# Altium integrated library Linear Technology Power Management Switching Regulator LTC1174-LTC3901.IntLib: 2647 symbols (part 261 of 364)
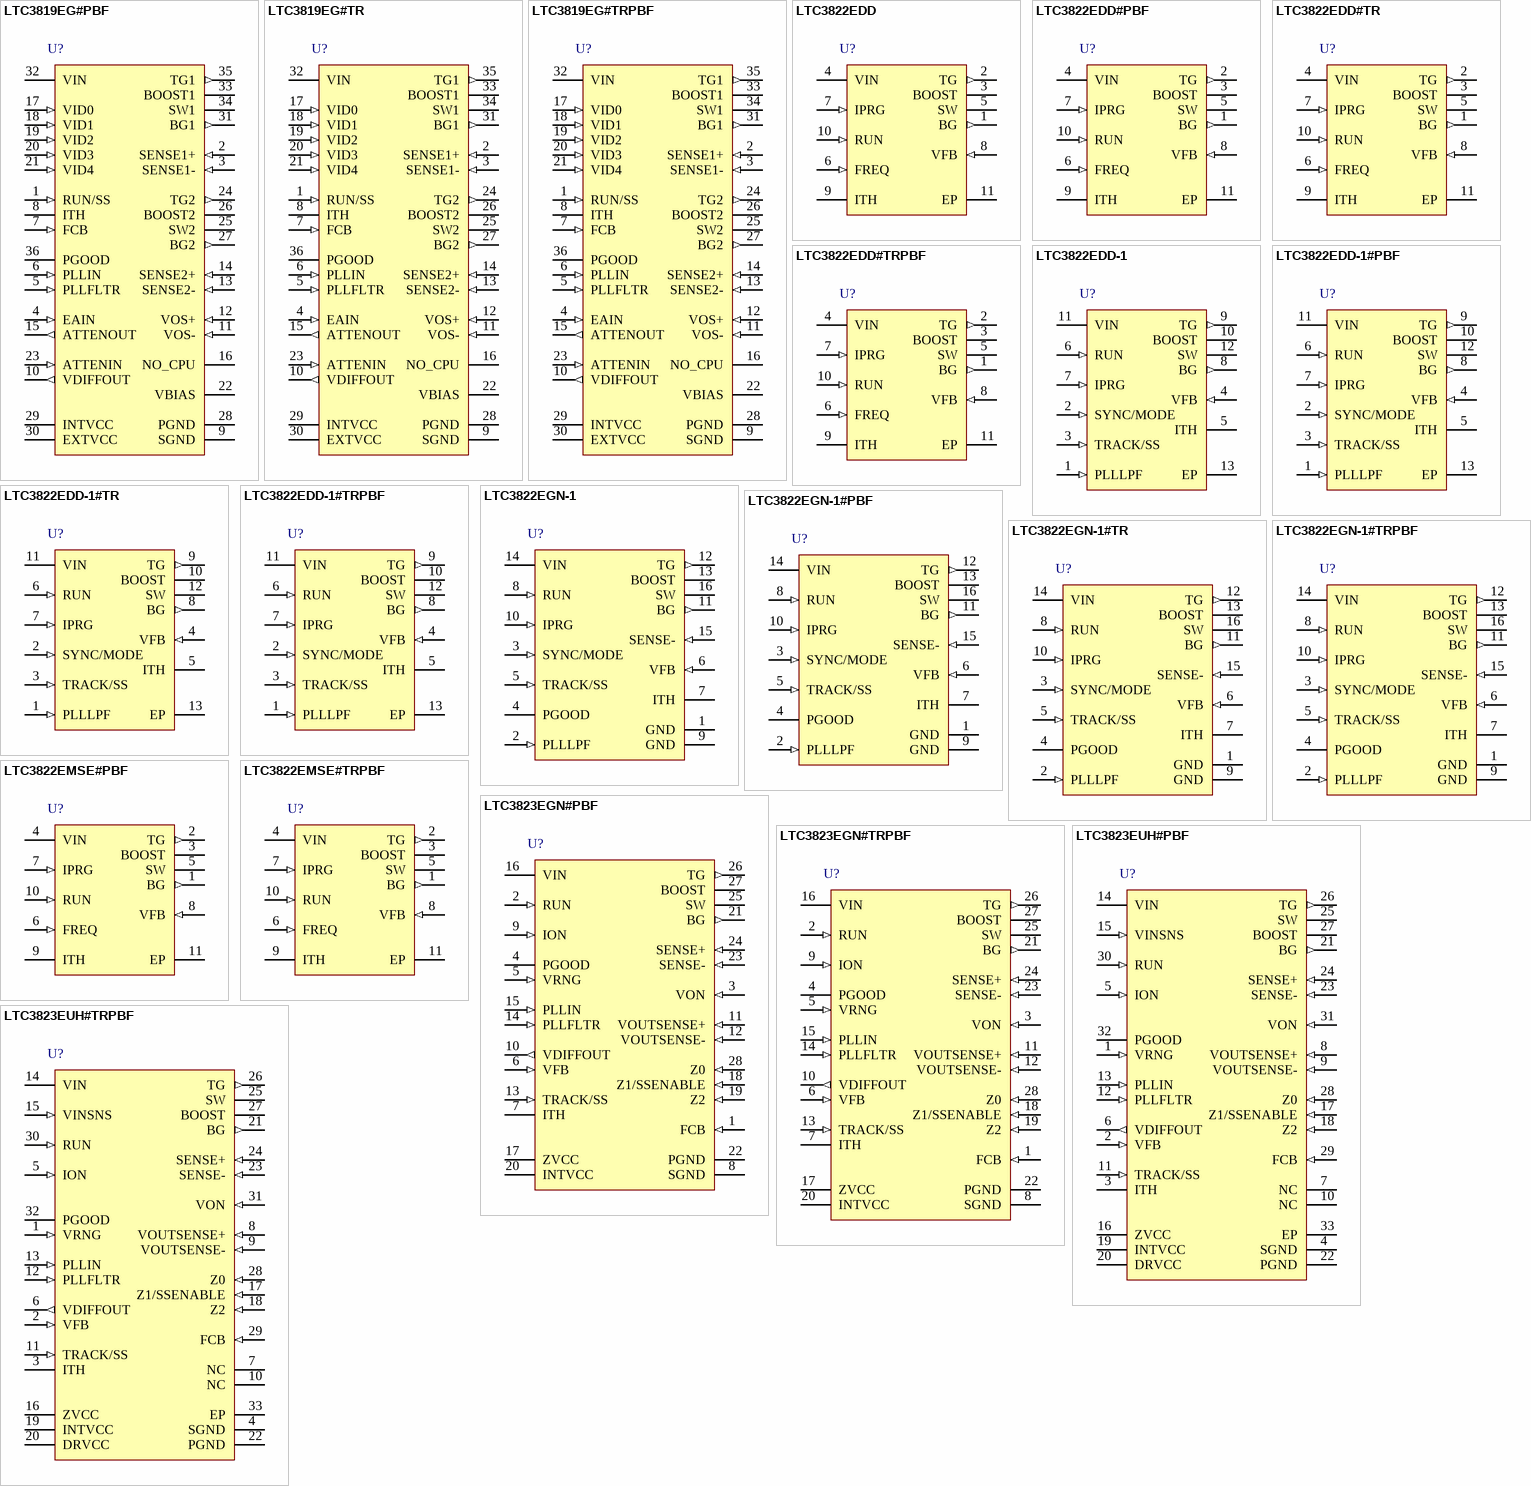
[diagram p250: symbols LTC3819EG#PBF to LTC3823EUH#TRPBF]

## LTC3822EDD#PBF
designator U?
No Rsense, Low Input Voltage, Synchronous Step-Down DC/DC Controller, 10-pin SON (DD-10), -40 to 85 degC, Pb-Free; Manufacturer: Linear Technology; PartNumber: LTC3822EDD#PBF; Number of Outputs: 1; DatasheetVersion: Rev. A; PackageVersion: Rev. C, 06/2010; PackageReference: DD-10; PackageDescription: 10-Pin Plastic DFN, Body 3 x 3 mm, Pitch 0.5 mm; Supplier 1: Digi-Key; Supplier Part Number 1: LTC3822EDD#PBF-ND; Supplier 2: Farnell; Supplier Part Number 2: 1715245; Supplier 3: Newark; Supplier Part Number 3: 95M6506; RoHS: TRUE; Mounting Technology: Surface Mount; Code_JEDEC: MO-229; ComponentLink1Description: Manufacturer URL; ComponentLink1URL: http://www.linear.com/; ComponentLink2Description: Datasheet; ComponentLink2URL: http://cds.linear.com/docs/en/datasheet/3822fa.pdf; ComponentLink3Description: Package Specification; ComponentLink3URL: http://cds.linear.com/docs/en/packaging/DFN_10_05-08-1699.pdf
footprint LT-DD-10_V (SON, 10-Leads, Body 3x3mm, Pitch 0.5mm, Thermal Pad 2.38x1.65mm)
pins: 1 BG (out) "Bottom Gate Driver Output. This pin drives the gate of the external bottom MOSFET. This pin has an output swing from GND to BOOST.", 2 TG (out) "Top Gate Driver Output. This pin drives the gate of the external topside MOSFET. This pin has an output swing from GND to BOOST.", 3 BOOST "Positive Supply Pin for the Gate Driver Circuitry. A bootstrapped capacitor, charged through an external Schottky diode from VIN, is connected between the BOOST and SW pins. Voltage swing at the BOOST pin is from VIN to 2VIN.(See Datasheet)", 4 VIN (power) "This pin powers the control circuitry and serves as the positive input to the differential current comparator. Pin 4 must not be locally decoupled with a capacitor as it is also the positive terminal for current sense.", 5 SW "Switch Node Connection to Inductor. This pin is also the negative input to the differential current comparator and an input to the reverse current comparator. Normally this pin is connected to the source of the external (See Datasheet)", 6 FREQ (in) "This pin serves as the frequency select input. Tying this pin to GND selects 300kHz operation; tying this pin to VIN selects 750kHz operation. Floating this pin selects 550kHz operation.", 7 IPRG (in) "Selects maximum peak sense voltage between the VIN and SW pins (i.e., the maximum allowed drop across the external top-side MOSFET). Tie to VIN, GND or float to select 200mV, 82mV or 120mV respectively.", 8 VFB (in) "Feedback Pin. This pin receives the remotely sensed feedback voltage from an external resistor divider across the output.", 9 ITH "Current Threshold and Error Amplifier Compensation Point. Nominal operating range on this pin is from 0.7V to 2V. The voltage on this pin determines the threshold of the main current comparator.", 10 RUN (in) "Run Control Input. Forcing this pin below 1.1V shuts down the chip. Driving this pin to VIN or releasing this pin enables the chip to start-up with the internal soft-start", 11 EP (power) "Exposed Pad. The exposed pad is ground and must be soldered to the PCB ground for electrical contact and optimal thermal performance."

## LTC3822EDD#TR
designator U?
No Rsense, Low Input Voltage, Synchronous Step-Down DC/DC Controller, 10-pin SON (DD-10), -40 to 85 degC, Tape and Reel; Manufacturer: Linear Technology; PartNumber: LTC3822EDD#TR; Number of Outputs: 1; DatasheetVersion: Rev. A; PackageVersion: Rev. C, 06/2010; PackageReference: DD-10; PackageDescription: 10-Pin Plastic DFN, Body 3 x 3 mm, Pitch 0.5 mm; Packing: Tape and Reel; RoHS: FALSE; Mounting Technology: Surface Mount; Code_JEDEC: MO-229; ComponentLink1Description: Manufacturer URL; ComponentLink1URL: http://www.linear.com/; ComponentLink2Description: Datasheet; ComponentLink2URL: http://cds.linear.com/docs/en/datasheet/3822fa.pdf; ComponentLink3Description: Package Specification; ComponentLink3URL: http://cds.linear.com/docs/en/packaging/DFN_10_05-08-1699.pdf
footprint LT-DD-10_V (SON, 10-Leads, Body 3x3mm, Pitch 0.5mm, Thermal Pad 2.38x1.65mm)
pins: 1 BG (out) "Bottom Gate Driver Output. This pin drives the gate of the external bottom MOSFET. This pin has an output swing from GND to BOOST.", 2 TG (out) "Top Gate Driver Output. This pin drives the gate of the external topside MOSFET. This pin has an output swing from GND to BOOST.", 3 BOOST "Positive Supply Pin for the Gate Driver Circuitry. A bootstrapped capacitor, charged through an external Schottky diode from VIN, is connected between the BOOST and SW pins. Voltage swing at the BOOST pin is from VIN to 2VIN.(See Datasheet)", 4 VIN (power) "This pin powers the control circuitry and serves as the positive input to the differential current comparator. Pin 4 must not be locally decoupled with a capacitor as it is also the positive terminal for current sense.", 5 SW "Switch Node Connection to Inductor. This pin is also the negative input to the differential current comparator and an input to the reverse current comparator. Normally this pin is connected to the source of the external (See Datasheet)", 6 FREQ (in) "This pin serves as the frequency select input. Tying this pin to GND selects 300kHz operation; tying this pin to VIN selects 750kHz operation. Floating this pin selects 550kHz operation.", 7 IPRG (in) "Selects maximum peak sense voltage between the VIN and SW pins (i.e., the maximum allowed drop across the external top-side MOSFET). Tie to VIN, GND or float to select 200mV, 82mV or 120mV respectively.", 8 VFB (in) "Feedback Pin. This pin receives the remotely sensed feedback voltage from an external resistor divider across the output.", 9 ITH "Current Threshold and Error Amplifier Compensation Point. Nominal operating range on this pin is from 0.7V to 2V. The voltage on this pin determines the threshold of the main current comparator.", 10 RUN (in) "Run Control Input. Forcing this pin below 1.1V shuts down the chip. Driving this pin to VIN or releasing this pin enables the chip to start-up with the internal soft-start", 11 EP (power) "Exposed Pad. The exposed pad is ground and must be soldered to the PCB ground for electrical contact and optimal thermal performance."

## LTC3822EDD#TRPBF
designator U?
No Rsense, Low Input Voltage, Synchronous Step-Down DC/DC Controller, 10-pin SON (DD-10), -40 to 85 degC, Pb-Free, Tape and Reel; Manufacturer: Linear Technology; PartNumber: LTC3822EDD#TRPBF; Number of Outputs: 1; DatasheetVersion: Rev. A; PackageVersion: Rev. C, 06/2010; PackageReference: DD-10; PackageDescription: 10-Pin Plastic DFN, Body 3 x 3 mm, Pitch 0.5 mm; Supplier 1: Digi-Key; Supplier Part Number 1: LTC3822EDD#TRPBF-ND; Packing: Tape and Reel; RoHS: TRUE; Mounting Technology: Surface Mount; Code_JEDEC: MO-229; ComponentLink1Description: Manufacturer URL; ComponentLink1URL: http://www.linear.com/; ComponentLink2Description: Datasheet; ComponentLink2URL: http://cds.linear.com/docs/en/datasheet/3822fa.pdf; ComponentLink3Description: Package Specification; ComponentLink3URL: http://cds.linear.com/docs/en/packaging/DFN_10_05-08-1699.pdf
footprint LT-DD-10_V (SON, 10-Leads, Body 3x3mm, Pitch 0.5mm, Thermal Pad 2.38x1.65mm)
pins: 1 BG (out) "Bottom Gate Driver Output. This pin drives the gate of the external bottom MOSFET. This pin has an output swing from GND to BOOST.", 2 TG (out) "Top Gate Driver Output. This pin drives the gate of the external topside MOSFET. This pin has an output swing from GND to BOOST.", 3 BOOST "Positive Supply Pin for the Gate Driver Circuitry. A bootstrapped capacitor, charged through an external Schottky diode from VIN, is connected between the BOOST and SW pins. Voltage swing at the BOOST pin is from VIN to 2VIN.(See Datasheet)", 4 VIN (power) "This pin powers the control circuitry and serves as the positive input to the differential current comparator. Pin 4 must not be locally decoupled with a capacitor as it is also the positive terminal for current sense.", 5 SW "Switch Node Connection to Inductor. This pin is also the negative input to the differential current comparator and an input to the reverse current comparator. Normally this pin is connected to the source of the external (See Datasheet)", 6 FREQ (in) "This pin serves as the frequency select input. Tying this pin to GND selects 300kHz operation; tying this pin to VIN selects 750kHz operation. Floating this pin selects 550kHz operation.", 7 IPRG (in) "Selects maximum peak sense voltage between the VIN and SW pins (i.e., the maximum allowed drop across the external top-side MOSFET). Tie to VIN, GND or float to select 200mV, 82mV or 120mV respectively.", 8 VFB (in) "Feedback Pin. This pin receives the remotely sensed feedback voltage from an external resistor divider across the output.", 9 ITH "Current Threshold and Error Amplifier Compensation Point. Nominal operating range on this pin is from 0.7V to 2V. The voltage on this pin determines the threshold of the main current comparator.", 10 RUN (in) "Run Control Input. Forcing this pin below 1.1V shuts down the chip. Driving this pin to VIN or releasing this pin enables the chip to start-up with the internal soft-start", 11 EP (power) "Exposed Pad. The exposed pad is ground and must be soldered to the PCB ground for electrical contact and optimal thermal performance."

## LTC3822EDD-1
designator U?
No Rsense, Low Input Voltage, Synchronous Step-Down DC/DC Controller, 12-pin SON (DD-12), -40 to 85 degC; Manufacturer: Linear Technology; PartNumber: LTC3822EDD-1; Frequency Sync Range: 250kHz - 750kHz; Number of Outputs: 1; PackageVersion: Rev. A, 06/2010; PackageReference: DD-12; PackageDescription: 12-Pin Plastic DFN, Body 3 x 3 mm, Pitch 0.45 mm; RoHS: FALSE; Mounting Technology: Surface Mount; ComponentLink1Description: Manufacturer URL; ComponentLink1URL: http://www.linear.com/; ComponentLink2Description: Datasheet; ComponentLink2URL: http://cds.linear.com/docs/en/datasheet/38221f.pdf; ComponentLink3Description: Package Specification; ComponentLink3URL: http://cds.linear.com/docs/en/packaging/DFN_12_05-08-1725.pdf
footprint LT-DD-12_V (SON, 12-Leads, Body 3x3mm, Pitch 0.45mm, Thermal Pad 2.38x1.65mm)
pins: 1 PLLLPF (in) "This pin serves as the frequency select input and PLL lowpass filter compensation point. When SYNC/MODE has a DC voltage on it, tying this pin to GND selects 300kHz operation; tying this pin to VIN selects 750kHz operation. (See Datasheet)", 2 SYNC/MODE (in) "This pin performs two functions:1) external clock synchronization input for phaselocked loop and 2) Burst Mode, pulse skipping or forced continuous mode select. Applying a clock with frequency between 250kHz and 750kHz (See Datasheet)", 3 TRACK/SS (in) "Tracking Input for the Controller or Optional External Soft-Start Input. This pin allows the start-up of VOUT to “track?the external voltage at this pin using an external resistor divider. The LTC3822-1 regulates (See Datasheet)", 4 VFB (in) "Feedback Pin. This pin receives the remotely sensed feedback voltage for the controller from an external resistor divider across the output.", 5 ITH "Current Threshold and Error Amplifier Compensation Point. Nominal operating range on this pin is from 0.7V to 2V. The voltage on this pin determines the threshold of the main current comparator.", 6 RUN (in) "Run Control Input. Forcing this pin below 1.1V shuts down the chip. Driving this pin to VIN or releasing this pin enables the chip to start-up.", 7 IPRG (in) "Three-State Pin to Select the Maximum Peak Sense Voltage Threshold. This pin selects the maximum allowed voltage drop between the VIN and SW pins (i.e., the maximum allowed drop across the external topside MOSFET). Tie to (See Datasheet)", 8 BG (out) "Bottom Gate Driver Output. This pin drives the gate of the external bottom-side MOSFET. This pin has an output swing from GND to BOOST.", 9 TG (out) "Top Gate Driver Output. This pin drives the gate of the external topside MOSFET. This pin has an output swing from GND to BOOST.", 10 BOOST "Positive Supply Pin for the Gate Driver Circuitry. A bootstrapped capacitor, charged with an external Schottky diode and a boost voltage source, is connected between the BOOST and SW pins. Voltage swing at the BOOST pin is (See Datasheet)", 11 VIN (power) "This pin powers the control circuitry and serves as the positive input to the differential current comparator.", 12 SW "Switch Node Connection to Inductor. This pin is also the negative input to the differential current comparator(DFN only) and an input to the reverse current comparator. Normally this pin is connected to the source of the (See Datasheet)", 13 EP (power) "Ground. The Exposed Pad is ground and must be soldered to the PCB ground for electrical contact and optimal thermal performance."

## LTC3822EDD-1#PBF
designator U?
No Rsense, Low Input Voltage, Synchronous Step-Down DC/DC Controller, 12-pin SON (DD-12), -40 to 85 degC, Pb-Free; Manufacturer: Linear Technology; PartNumber: LTC3822EDD-1#PBF; Frequency Sync Range: 250kHz - 750kHz; Number of Outputs: 1; PackageVersion: Rev. A, 06/2010; PackageReference: DD-12; PackageDescription: 12-Pin Plastic DFN, Body 3 x 3 mm, Pitch 0.45 mm; Supplier 1: Digi-Key; Supplier Part Number 1: LTC3822EDD-1#PBF-ND; Supplier 2: Newark; Supplier Part Number 2: 56M8512; RoHS: TRUE; Mounting Technology: Surface Mount; ComponentLink1Description: Manufacturer URL; ComponentLink1URL: http://www.linear.com/; ComponentLink2Description: Datasheet; ComponentLink2URL: http://cds.linear.com/docs/en/datasheet/38221f.pdf; ComponentLink3Description: Package Specification; ComponentLink3URL: http://cds.linear.com/docs/en/packaging/DFN_12_05-08-1725.pdf
footprint LT-DD-12_V (SON, 12-Leads, Body 3x3mm, Pitch 0.45mm, Thermal Pad 2.38x1.65mm)
pins: 1 PLLLPF (in) "This pin serves as the frequency select input and PLL lowpass filter compensation point. When SYNC/MODE has a DC voltage on it, tying this pin to GND selects 300kHz operation; tying this pin to VIN selects 750kHz operation. (See Datasheet)", 2 SYNC/MODE (in) "This pin performs two functions:1) external clock synchronization input for phaselocked loop and 2) Burst Mode, pulse skipping or forced continuous mode select. Applying a clock with frequency between 250kHz and 750kHz (See Datasheet)", 3 TRACK/SS (in) "Tracking Input for the Controller or Optional External Soft-Start Input. This pin allows the start-up of VOUT to “track?the external voltage at this pin using an external resistor divider. The LTC3822-1 regulates (See Datasheet)", 4 VFB (in) "Feedback Pin. This pin receives the remotely sensed feedback voltage for the controller from an external resistor divider across the output.", 5 ITH "Current Threshold and Error Amplifier Compensation Point. Nominal operating range on this pin is from 0.7V to 2V. The voltage on this pin determines the threshold of the main current comparator.", 6 RUN (in) "Run Control Input. Forcing this pin below 1.1V shuts down the chip. Driving this pin to VIN or releasing this pin enables the chip to start-up.", 7 IPRG (in) "Three-State Pin to Select the Maximum Peak Sense Voltage Threshold. This pin selects the maximum allowed voltage drop between the VIN and SW pins (i.e., the maximum allowed drop across the external topside MOSFET). Tie to (See Datasheet)", 8 BG (out) "Bottom Gate Driver Output. This pin drives the gate of the external bottom-side MOSFET. This pin has an output swing from GND to BOOST.", 9 TG (out) "Top Gate Driver Output. This pin drives the gate of the external topside MOSFET. This pin has an output swing from GND to BOOST.", 10 BOOST "Positive Supply Pin for the Gate Driver Circuitry. A bootstrapped capacitor, charged with an external Schottky diode and a boost voltage source, is connected between the BOOST and SW pins. Voltage swing at the BOOST pin is (See Datasheet)", 11 VIN (power) "This pin powers the control circuitry and serves as the positive input to the differential current comparator.", 12 SW "Switch Node Connection to Inductor. This pin is also the negative input to the differential current comparator(DFN only) and an input to the reverse current comparator. Normally this pin is connected to the source of the (See Datasheet)", 13 EP (power) "Ground. The Exposed Pad is ground and must be soldered to the PCB ground for electrical contact and optimal thermal performance."

## LTC3822EDD-1#TR
designator U?
No Rsense, Low Input Voltage, Synchronous Step-Down DC/DC Controller, 12-pin SON (DD-12), -40 to 85 degC, Tape and Reel; Manufacturer: Linear Technology; PartNumber: LTC3822EDD-1#TR; Frequency Sync Range: 250kHz - 750kHz; Number of Outputs: 1; PackageVersion: Rev. A, 06/2010; PackageReference: DD-12; PackageDescription: 12-Pin Plastic DFN, Body 3 x 3 mm, Pitch 0.45 mm; Packing: Tape and Reel; RoHS: FALSE; Mounting Technology: Surface Mount; ComponentLink1Description: Manufacturer URL; ComponentLink1URL: http://www.linear.com/; ComponentLink2Description: Datasheet; ComponentLink2URL: http://cds.linear.com/docs/en/datasheet/38221f.pdf; ComponentLink3Description: Package Specification; ComponentLink3URL: http://cds.linear.com/docs/en/packaging/DFN_12_05-08-1725.pdf
footprint LT-DD-12_V (SON, 12-Leads, Body 3x3mm, Pitch 0.45mm, Thermal Pad 2.38x1.65mm)
pins: 1 PLLLPF (in) "This pin serves as the frequency select input and PLL lowpass filter compensation point. When SYNC/MODE has a DC voltage on it, tying this pin to GND selects 300kHz operation; tying this pin to VIN selects 750kHz operation. (See Datasheet)", 2 SYNC/MODE (in) "This pin performs two functions:1) external clock synchronization input for phaselocked loop and 2) Burst Mode, pulse skipping or forced continuous mode select. Applying a clock with frequency between 250kHz and 750kHz (See Datasheet)", 3 TRACK/SS (in) "Tracking Input for the Controller or Optional External Soft-Start Input. This pin allows the start-up of VOUT to “track?the external voltage at this pin using an external resistor divider. The LTC3822-1 regulates (See Datasheet)", 4 VFB (in) "Feedback Pin. This pin receives the remotely sensed feedback voltage for the controller from an external resistor divider across the output.", 5 ITH "Current Threshold and Error Amplifier Compensation Point. Nominal operating range on this pin is from 0.7V to 2V. The voltage on this pin determines the threshold of the main current comparator.", 6 RUN (in) "Run Control Input. Forcing this pin below 1.1V shuts down the chip. Driving this pin to VIN or releasing this pin enables the chip to start-up.", 7 IPRG (in) "Three-State Pin to Select the Maximum Peak Sense Voltage Threshold. This pin selects the maximum allowed voltage drop between the VIN and SW pins (i.e., the maximum allowed drop across the external topside MOSFET). Tie to (See Datasheet)", 8 BG (out) "Bottom Gate Driver Output. This pin drives the gate of the external bottom-side MOSFET. This pin has an output swing from GND to BOOST.", 9 TG (out) "Top Gate Driver Output. This pin drives the gate of the external topside MOSFET. This pin has an output swing from GND to BOOST.", 10 BOOST "Positive Supply Pin for the Gate Driver Circuitry. A bootstrapped capacitor, charged with an external Schottky diode and a boost voltage source, is connected between the BOOST and SW pins. Voltage swing at the BOOST pin is (See Datasheet)", 11 VIN (power) "This pin powers the control circuitry and serves as the positive input to the differential current comparator.", 12 SW "Switch Node Connection to Inductor. This pin is also the negative input to the differential current comparator(DFN only) and an input to the reverse current comparator. Normally this pin is connected to the source of the (See Datasheet)", 13 EP (power) "Ground. The Exposed Pad is ground and must be soldered to the PCB ground for electrical contact and optimal thermal performance."

## LTC3822EDD-1#TRPBF
designator U?
No Rsense, Low Input Voltage, Synchronous Step-Down DC/DC Controller, 12-pin SON (DD-12), -40 to 85 degC, Pb-Free, Tape and Reel; Manufacturer: Linear Technology; PartNumber: LTC3822EDD-1#TRPBF; Frequency Sync Range: 250kHz - 750kHz; Number of Outputs: 1; PackageVersion: Rev. A, 06/2010; PackageReference: DD-12; PackageDescription: 12-Pin Plastic DFN, Body 3 x 3 mm, Pitch 0.45 mm; Supplier 1: Digi-Key; Supplier Part Number 1: LTC3822EDD-1#TRPBF-ND; Packing: Tape and Reel; RoHS: TRUE; Mounting Technology: Surface Mount; ComponentLink1Description: Manufacturer URL; ComponentLink1URL: http://www.linear.com/; ComponentLink2Description: Datasheet; ComponentLink2URL: http://cds.linear.com/docs/en/datasheet/38221f.pdf; ComponentLink3Description: Package Specification; ComponentLink3URL: http://cds.linear.com/docs/en/packaging/DFN_12_05-08-1725.pdf
footprint LT-DD-12_V (SON, 12-Leads, Body 3x3mm, Pitch 0.45mm, Thermal Pad 2.38x1.65mm)
pins: 1 PLLLPF (in) "This pin serves as the frequency select input and PLL lowpass filter compensation point. When SYNC/MODE has a DC voltage on it, tying this pin to GND selects 300kHz operation; tying this pin to VIN selects 750kHz operation. (See Datasheet)", 2 SYNC/MODE (in) "This pin performs two functions:1) external clock synchronization input for phaselocked loop and 2) Burst Mode, pulse skipping or forced continuous mode select. Applying a clock with frequency between 250kHz and 750kHz (See Datasheet)", 3 TRACK/SS (in) "Tracking Input for the Controller or Optional External Soft-Start Input. This pin allows the start-up of VOUT to “track?the external voltage at this pin using an external resistor divider. The LTC3822-1 regulates (See Datasheet)", 4 VFB (in) "Feedback Pin. This pin receives the remotely sensed feedback voltage for the controller from an external resistor divider across the output.", 5 ITH "Current Threshold and Error Amplifier Compensation Point. Nominal operating range on this pin is from 0.7V to 2V. The voltage on this pin determines the threshold of the main current comparator.", 6 RUN (in) "Run Control Input. Forcing this pin below 1.1V shuts down the chip. Driving this pin to VIN or releasing this pin enables the chip to start-up.", 7 IPRG (in) "Three-State Pin to Select the Maximum Peak Sense Voltage Threshold. This pin selects the maximum allowed voltage drop between the VIN and SW pins (i.e., the maximum allowed drop across the external topside MOSFET). Tie to (See Datasheet)", 8 BG (out) "Bottom Gate Driver Output. This pin drives the gate of the external bottom-side MOSFET. This pin has an output swing from GND to BOOST.", 9 TG (out) "Top Gate Driver Output. This pin drives the gate of the external topside MOSFET. This pin has an output swing from GND to BOOST.", 10 BOOST "Positive Supply Pin for the Gate Driver Circuitry. A bootstrapped capacitor, charged with an external Schottky diode and a boost voltage source, is connected between the BOOST and SW pins. Voltage swing at the BOOST pin is (See Datasheet)", 11 VIN (power) "This pin powers the control circuitry and serves as the positive input to the differential current comparator.", 12 SW "Switch Node Connection to Inductor. This pin is also the negative input to the differential current comparator(DFN only) and an input to the reverse current comparator. Normally this pin is connected to the source of the (See Datasheet)", 13 EP (power) "Ground. The Exposed Pad is ground and must be soldered to the PCB ground for electrical contact and optimal thermal performance."

## LTC3822EGN-1
designator U?
No Rsense, Low Input Voltage, Synchronous Step-Down DC/DC Controller, 16-pin SOP (GN-16), -40 to 85 degC; Manufacturer: Linear Technology; PartNumber: LTC3822EGN-1; Frequency Sync Range: 250kHz - 750kHz; Number of Outputs: 1; PackageVersion: Rev. B, 03/2012; PackageReference: GN-16; PackageDescription: 16-Pin Plastic SSOP, Body 4.9 x 3.9 mm, Pitch 0.635 mm; RoHS: FALSE; Mounting Technology: Surface Mount; ComponentLink1Description: Manufacturer URL; ComponentLink1URL: http://www.linear.com/; ComponentLink2Description: Datasheet; ComponentLink2URL: http://cds.linear.com/docs/en/datasheet/38221f.pdf; ComponentLink3Description: Package Specification; ComponentLink3URL: http://cds.linear.com/docs/en/packaging/05081641_B_GN16.pdf
footprint LT-GN-16_N (SOP, 16-Leads, Body 5x4mm, Pitch 0.635mm, IPC Medium Density)
footprint LT-GN-16_L (SOP, 16-Leads, Body 5x4mm, Pitch 0.635mm, IPC High Density)
footprint LT-GN-16_M (SOP, 16-Leads, Body 5x4mm, Pitch 0.635mm, IPC Low Density)
pins: 1 GND (power) "Ground.", 2 PLLLPF (in) "This pin serves as the frequency select input and PLL lowpass filter compensation point. When SYNC/MODE has a DC voltage on it, tying this pin  to GND selects 300kHz operation; tying this pin to VIN selects 750kHz operation. (See Datasheet)", 3 SYNC/MODE (in) "This pin performs two functions: 1) external clock synchronization input for phaselocked loop and 2) Burst Mode, pulse skipping or forced continuous mode select. Applying a clock with frequency between 250kHz and 750kHz (See Datasheet)", 4 PGOOD (oc) "Power Good Output Voltage Monitor Open-Drain Logic Output. This pin is pulled to ground when the voltage on the feedback pin VFB is not within +/-13.3% of its nominal set point", 5 TRACK/SS (in) "Tracking Input for the Controller or Optional External Soft-Start Input. This pin allows the start-up of VOUT to “track?the external voltage at this pin using an external resistor divider. The LTC3822-1 regulates (See Datasheet)", 6 VFB (in) "Feedback Pin. This pin receives the remotely sensed feedback voltage for the controller from an external resistor divider across the output.", 7 ITH "Current Threshold and Error Amplifier Compensation Point. Nominal operating range on this pin is from 0.7V to 2V. The voltage on this pin determines the threshold of the main current comparator.", 8 RUN (in) "Run Control Input. Forcing this pin below 1.1V shuts down the chip. Driving this pin to VIN or releasing this pin enables the chip to start-up.", 9 GND (power) "Ground.", 10 IPRG (in) "Three-State Pin to Select the Maximum Peak Sense Voltage Threshold. This pin selects the maximum allowed voltage drop between the VIN and SW pins (i.e., the maximum allowed drop across the external topside MOSFET). Tie to (See Datasheet)", 11 BG (out) "Bottom Gate Driver Output. This pin drives the gate of the external bottom-side MOSFET. This pin has an output swing from GND to BOOST.", 12 TG (out) "Top Gate Driver Output. This pin drives the gate of the external topside MOSFET. This pin has an output swing from GND to BOOST.", 13 BOOST "Positive Supply Pin for the Gate Driver Circuitry. A bootstrapped capacitor, charged with an external Schottky diode and a boost voltage source, is connected between the BOOST and SW pins. Voltage swing at the BOOST pin is (See Datasheet)", 14 VIN (power) "This pin powers the control circuitry and serves as the positive input to the differential current comparator.", 15 SENSE- (in) "Negative Input to the Differential Current Comparator. Normally this pin is connected to the source of the external topside MOSFET.", 16 SW "Switch Node Connection to Inductor. This pin is also the negative input to the differential current comparator(DFN only) and an input to the reverse current comparator. Normally this pin is connected to the source of the (See Datasheet)"

## LTC3822EGN-1#PBF
designator U?
No Rsense, Low Input Voltage, Synchronous Step-Down DC/DC Controller, 16-pin SOP (GN-16), -40 to 85 degC, Pb-Free; Manufacturer: Linear Technology; PartNumber: LTC3822EGN-1#PBF; Frequency Sync Range: 250kHz - 750kHz; Number of Outputs: 1; PackageVersion: Rev. B, 03/2012; PackageReference: GN-16; PackageDescription: 16-Pin Plastic SSOP, Body 4.9 x 3.9 mm, Pitch 0.635 mm; Supplier 1: Digi-Key; Supplier Part Number 1: LTC3822EGN-1#PBF-ND; RoHS: TRUE; Mounting Technology: Surface Mount; ComponentLink1Description: Manufacturer URL; ComponentLink1URL: http://www.linear.com/; ComponentLink2Description: Datasheet; ComponentLink2URL: http://cds.linear.com/docs/en/datasheet/38221f.pdf; ComponentLink3Description: Package Specification; ComponentLink3URL: http://cds.linear.com/docs/en/packaging/05081641_B_GN16.pdf
footprint LT-GN-16_N (SOP, 16-Leads, Body 5x4mm, Pitch 0.635mm, IPC Medium Density)
footprint LT-GN-16_L (SOP, 16-Leads, Body 5x4mm, Pitch 0.635mm, IPC High Density)
footprint LT-GN-16_M (SOP, 16-Leads, Body 5x4mm, Pitch 0.635mm, IPC Low Density)
pins: 1 GND (power) "Ground.", 2 PLLLPF (in) "This pin serves as the frequency select input and PLL lowpass filter compensation point. When SYNC/MODE has a DC voltage on it, tying this pin  to GND selects 300kHz operation; tying this pin to VIN selects 750kHz operation. (See Datasheet)", 3 SYNC/MODE (in) "This pin performs two functions: 1) external clock synchronization input for phaselocked loop and 2) Burst Mode, pulse skipping or forced continuous mode select. Applying a clock with frequency between 250kHz and 750kHz (See Datasheet)", 4 PGOOD (oc) "Power Good Output Voltage Monitor Open-Drain Logic Output. This pin is pulled to ground when the voltage on the feedback pin VFB is not within +/-13.3% of its nominal set point", 5 TRACK/SS (in) "Tracking Input for the Controller or Optional External Soft-Start Input. This pin allows the start-up of VOUT to “track?the external voltage at this pin using an external resistor divider. The LTC3822-1 regulates (See Datasheet)", 6 VFB (in) "Feedback Pin. This pin receives the remotely sensed feedback voltage for the controller from an external resistor divider across the output.", 7 ITH "Current Threshold and Error Amplifier Compensation Point. Nominal operating range on this pin is from 0.7V to 2V. The voltage on this pin determines the threshold of the main current comparator.", 8 RUN (in) "Run Control Input. Forcing this pin below 1.1V shuts down the chip. Driving this pin to VIN or releasing this pin enables the chip to start-up.", 9 GND (power) "Ground.", 10 IPRG (in) "Three-State Pin to Select the Maximum Peak Sense Voltage Threshold. This pin selects the maximum allowed voltage drop between the VIN and SW pins (i.e., the maximum allowed drop across the external topside MOSFET). Tie to (See Datasheet)", 11 BG (out) "Bottom Gate Driver Output. This pin drives the gate of the external bottom-side MOSFET. This pin has an output swing from GND to BOOST.", 12 TG (out) "Top Gate Driver Output. This pin drives the gate of the external topside MOSFET. This pin has an output swing from GND to BOOST.", 13 BOOST "Positive Supply Pin for the Gate Driver Circuitry. A bootstrapped capacitor, charged with an external Schottky diode and a boost voltage source, is connected between the BOOST and SW pins. Voltage swing at the BOOST pin is (See Datasheet)", 14 VIN (power) "This pin powers the control circuitry and serves as the positive input to the differential current comparator.", 15 SENSE- (in) "Negative Input to the Differential Current Comparator. Normally this pin is connected to the source of the external topside MOSFET.", 16 SW "Switch Node Connection to Inductor. This pin is also the negative input to the differential current comparator(DFN only) and an input to the reverse current comparator. Normally this pin is connected to the source of the (See Datasheet)"

## LTC3822EGN-1#TR
designator U?
No Rsense, Low Input Voltage, Synchronous Step-Down DC/DC Controller, 16-pin SOP (GN-16), -40 to 85 degC, Tape and Reel; Manufacturer: Linear Technology; PartNumber: LTC3822EGN-1#TR; Frequency Sync Range: 250kHz - 750kHz; Number of Outputs: 1; PackageVersion: Rev. B, 03/2012; PackageReference: GN-16; PackageDescription: 16-Pin Plastic SSOP, Body 4.9 x 3.9 mm, Pitch 0.635 mm; Packing: Tape and Reel; RoHS: FALSE; Mounting Technology: Surface Mount; ComponentLink1Description: Manufacturer URL; ComponentLink1URL: http://www.linear.com/; ComponentLink2Description: Datasheet; ComponentLink2URL: http://cds.linear.com/docs/en/datasheet/38221f.pdf; ComponentLink3Description: Package Specification; ComponentLink3URL: http://cds.linear.com/docs/en/packaging/05081641_B_GN16.pdf
footprint LT-GN-16_N (SOP, 16-Leads, Body 5x4mm, Pitch 0.635mm, IPC Medium Density)
footprint LT-GN-16_L (SOP, 16-Leads, Body 5x4mm, Pitch 0.635mm, IPC High Density)
footprint LT-GN-16_M (SOP, 16-Leads, Body 5x4mm, Pitch 0.635mm, IPC Low Density)
pins: 1 GND (power) "Ground.", 2 PLLLPF (in) "This pin serves as the frequency select input and PLL lowpass filter compensation point. When SYNC/MODE has a DC voltage on it, tying this pin  to GND selects 300kHz operation; tying this pin to VIN selects 750kHz operation. (See Datasheet)", 3 SYNC/MODE (in) "This pin performs two functions: 1) external clock synchronization input for phaselocked loop and 2) Burst Mode, pulse skipping or forced continuous mode select. Applying a clock with frequency between 250kHz and 750kHz (See Datasheet)", 4 PGOOD (oc) "Power Good Output Voltage Monitor Open-Drain Logic Output. This pin is pulled to ground when the voltage on the feedback pin VFB is not within +/-13.3% of its nominal set point", 5 TRACK/SS (in) "Tracking Input for the Controller or Optional External Soft-Start Input. This pin allows the start-up of VOUT to “track?the external voltage at this pin using an external resistor divider. The LTC3822-1 regulates (See Datasheet)", 6 VFB (in) "Feedback Pin. This pin receives the remotely sensed feedback voltage for the controller from an external resistor divider across the output.", 7 ITH "Current Threshold and Error Amplifier Compensation Point. Nominal operating range on this pin is from 0.7V to 2V. The voltage on this pin determines the threshold of the main current comparator.", 8 RUN (in) "Run Control Input. Forcing this pin below 1.1V shuts down the chip. Driving this pin to VIN or releasing this pin enables the chip to start-up.", 9 GND (power) "Ground.", 10 IPRG (in) "Three-State Pin to Select the Maximum Peak Sense Voltage Threshold. This pin selects the maximum allowed voltage drop between the VIN and SW pins (i.e., the maximum allowed drop across the external topside MOSFET). Tie to (See Datasheet)", 11 BG (out) "Bottom Gate Driver Output. This pin drives the gate of the external bottom-side MOSFET. This pin has an output swing from GND to BOOST.", 12 TG (out) "Top Gate Driver Output. This pin drives the gate of the external topside MOSFET. This pin has an output swing from GND to BOOST.", 13 BOOST "Positive Supply Pin for the Gate Driver Circuitry. A bootstrapped capacitor, charged with an external Schottky diode and a boost voltage source, is connected between the BOOST and SW pins. Voltage swing at the BOOST pin is (See Datasheet)", 14 VIN (power) "This pin powers the control circuitry and serves as the positive input to the differential current comparator.", 15 SENSE- (in) "Negative Input to the Differential Current Comparator. Normally this pin is connected to the source of the external topside MOSFET.", 16 SW "Switch Node Connection to Inductor. This pin is also the negative input to the differential current comparator(DFN only) and an input to the reverse current comparator. Normally this pin is connected to the source of the (See Datasheet)"

## LTC3822EGN-1#TRPBF
designator U?
No Rsense, Low Input Voltage, Synchronous Step-Down DC/DC Controller, 16-pin SOP (GN-16), -40 to 85 degC, Pb-Free, Tape and Reel; Manufacturer: Linear Technology; PartNumber: LTC3822EGN-1#TRPBF; Frequency Sync Range: 250kHz - 750kHz; Number of Outputs: 1; PackageVersion: Rev. B, 03/2012; PackageReference: GN-16; PackageDescription: 16-Pin Plastic SSOP, Body 4.9 x 3.9 mm, Pitch 0.635 mm; Supplier 1: Digi-Key; Supplier Part Number 1: LTC3822EGN-1#TRPBF-ND; Packing: Tape and Reel; RoHS: TRUE; Mounting Technology: Surface Mount; ComponentLink1Description: Manufacturer URL; ComponentLink1URL: http://www.linear.com/; ComponentLink2Description: Datasheet; ComponentLink2URL: http://cds.linear.com/docs/en/datasheet/38221f.pdf; ComponentLink3Description: Package Specification; ComponentLink3URL: http://cds.linear.com/docs/en/packaging/05081641_B_GN16.pdf
footprint LT-GN-16_N (SOP, 16-Leads, Body 5x4mm, Pitch 0.635mm, IPC Medium Density)
footprint LT-GN-16_L (SOP, 16-Leads, Body 5x4mm, Pitch 0.635mm, IPC High Density)
footprint LT-GN-16_M (SOP, 16-Leads, Body 5x4mm, Pitch 0.635mm, IPC Low Density)
pins: 1 GND (power) "Ground.", 2 PLLLPF (in) "This pin serves as the frequency select input and PLL lowpass filter compensation point. When SYNC/MODE has a DC voltage on it, tying this pin  to GND selects 300kHz operation; tying this pin to VIN selects 750kHz operation. (See Datasheet)", 3 SYNC/MODE (in) "This pin performs two functions: 1) external clock synchronization input for phaselocked loop and 2) Burst Mode, pulse skipping or forced continuous mode select. Applying a clock with frequency between 250kHz and 750kHz (See Datasheet)", 4 PGOOD (oc) "Power Good Output Voltage Monitor Open-Drain Logic Output. This pin is pulled to ground when the voltage on the feedback pin VFB is not within +/-13.3% of its nominal set point", 5 TRACK/SS (in) "Tracking Input for the Controller or Optional External Soft-Start Input. This pin allows the start-up of VOUT to “track?the external voltage at this pin using an external resistor divider. The LTC3822-1 regulates (See Datasheet)", 6 VFB (in) "Feedback Pin. This pin receives the remotely sensed feedback voltage for the controller from an external resistor divider across the output.", 7 ITH "Current Threshold and Error Amplifier Compensation Point. Nominal operating range on this pin is from 0.7V to 2V. The voltage on this pin determines the threshold of the main current comparator.", 8 RUN (in) "Run Control Input. Forcing this pin below 1.1V shuts down the chip. Driving this pin to VIN or releasing this pin enables the chip to start-up.", 9 GND (power) "Ground.", 10 IPRG (in) "Three-State Pin to Select the Maximum Peak Sense Voltage Threshold. This pin selects the maximum allowed voltage drop between the VIN and SW pins (i.e., the maximum allowed drop across the external topside MOSFET). Tie to (See Datasheet)", 11 BG (out) "Bottom Gate Driver Output. This pin drives the gate of the external bottom-side MOSFET. This pin has an output swing from GND to BOOST.", 12 TG (out) "Top Gate Driver Output. This pin drives the gate of the external topside MOSFET. This pin has an output swing from GND to BOOST.", 13 BOOST "Positive Supply Pin for the Gate Driver Circuitry. A bootstrapped capacitor, charged with an external Schottky diode and a boost voltage source, is connected between the BOOST and SW pins. Voltage swing at the BOOST pin is (See Datasheet)", 14 VIN (power) "This pin powers the control circuitry and serves as the positive input to the differential current comparator.", 15 SENSE- (in) "Negative Input to the Differential Current Comparator. Normally this pin is connected to the source of the external topside MOSFET.", 16 SW "Switch Node Connection to Inductor. This pin is also the negative input to the differential current comparator(DFN only) and an input to the reverse current comparator. Normally this pin is connected to the source of the (See Datasheet)"

## LTC3822EMSE#PBF
designator U?
No Rsense, Low Input Voltage, Synchronous Step-Down DC/DC Controller, 10-pin SOP (MSE-10-EDP), -40 to 85 degC, Pb-Free; Manufacturer: Linear Technology; PartNumber: LTC3822EMSE#PBF; Number of Outputs: 1; DatasheetVersion: Rev. A; PackageVersion: Rev. I, 05/2013; PackageReference: MSE-10; PackageDescription: 10-Pin Plastic MSOP, Exposed Die Pad, Body 3 x 3 mm, Pitch 0.5 mm; Supplier 1: Digi-Key; Supplier Part Number 1: LTC3822EMSE#PBF-ND; RoHS: TRUE; Mounting Technology: Surface Mount; ComponentLink1Description: Manufacturer URL; ComponentLink1URL: http://www.linear.com/; ComponentLink2Description: Datasheet; ComponentLink2URL: http://cds.linear.com/docs/en/datasheet/3822fa.pdf; ComponentLink3Description: Package Specification; ComponentLink3URL: http://cds.linear.com/docs/en/packaging/05081664_I_MSE.pdf
footprint LT-MSE-10-EDP_N (SOP, 10-Leads, Body 3.1x3.1mm, Pitch 0.5mm, Thermal Pad 1.88x1.68mm, IPC Medium Density)
footprint LT-MSE-10-EDP_L (SOP, 10-Leads, Body 3.1x3.1mm, Pitch 0.5mm, Thermal Pad 1.88x1.68mm, IPC High Density)
footprint LT-MSE-10-EDP_M (SOP, 10-Leads, Body 3.1x3.1mm, Pitch 0.5mm, Thermal Pad 1.88x1.68mm, IPC Low Density)
pins: 1 BG (out) "Bottom Gate Driver Output. This pin drives the gate of the external bottom MOSFET. This pin has an output swing from GND to BOOST.", 2 TG (out) "Top Gate Driver Output. This pin drives the gate of the external topside MOSFET. This pin has an output swing from GND to BOOST.", 3 BOOST "Positive Supply Pin for the Gate Driver Circuitry. A bootstrapped capacitor, charged through an external Schottky diode from VIN, is connected between the BOOST and SW pins. Voltage swing at the BOOST pin is from VIN to 2VIN.(See Datasheet)", 4 VIN (power) "This pin powers the control circuitry and serves as the positive input to the differential current comparator. Pin 4 must not be locally decoupled with a capacitor as it is also the positive terminal for current sense.", 5 SW "Switch Node Connection to Inductor. This pin is also the negative input to the differential current comparator and an input to the reverse current comparator. Normally this pin is connected to the source of the external (See Datasheet)", 6 FREQ (in) "This pin serves as the frequency select input. Tying this pin to GND selects 300kHz operation; tying this pin to VIN selects 750kHz operation. Floating this pin selects 550kHz operation.", 7 IPRG (in) "Selects maximum peak sense voltage between the VIN and SW pins (i.e., the maximum allowed drop across the external top-side MOSFET). Tie to VIN, GND or float to select 200mV, 82mV or 120mV respectively.", 8 VFB (in) "Feedback Pin. This pin receives the remotely sensed feedback voltage from an external resistor divider across the output.", 9 ITH "Current Threshold and Error Amplifier Compensation Point. Nominal operating range on this pin is from 0.7V to 2V. The voltage on this pin determines the threshold of the main current comparator.", 10 RUN (in) "Run Control Input. Forcing this pin below 1.1V shuts down the chip. Driving this pin to VIN or releasing this pin enables the chip to start-up with the internal soft-start", 11 EP (power) "Exposed Pad. The exposed pad is ground and must be soldered to the PCB ground for electrical contact and optimal thermal performance."

## LTC3822EMSE#TRPBF
designator U?
No Rsense, Low Input Voltage, Synchronous Step-Down DC/DC Controller, 10-pin SOP (MSE-10-EDP), -40 to 85 degC, Pb-Free, Tape and Reel; Manufacturer: Linear Technology; PartNumber: LTC3822EMSE#TRPBF; Number of Outputs: 1; DatasheetVersion: Rev. A; PackageVersion: Rev. I, 05/2013; PackageReference: MSE-10; PackageDescription: 10-Pin Plastic MSOP, Exposed Die Pad, Body 3 x 3 mm, Pitch 0.5 mm; Supplier 1: Digi-Key; Supplier Part Number 1: LTC3822EMSE#TRPBF-ND; Packing: Tape and Reel; RoHS: TRUE; Mounting Technology: Surface Mount; ComponentLink1Description: Manufacturer URL; ComponentLink1URL: http://www.linear.com/; ComponentLink2Description: Datasheet; ComponentLink2URL: http://cds.linear.com/docs/en/datasheet/3822fa.pdf; ComponentLink3Description: Package Specification; ComponentLink3URL: http://cds.linear.com/docs/en/packaging/05081664_I_MSE.pdf
footprint LT-MSE-10-EDP_N (SOP, 10-Leads, Body 3.1x3.1mm, Pitch 0.5mm, Thermal Pad 1.88x1.68mm, IPC Medium Density)
footprint LT-MSE-10-EDP_L (SOP, 10-Leads, Body 3.1x3.1mm, Pitch 0.5mm, Thermal Pad 1.88x1.68mm, IPC High Density)
footprint LT-MSE-10-EDP_M (SOP, 10-Leads, Body 3.1x3.1mm, Pitch 0.5mm, Thermal Pad 1.88x1.68mm, IPC Low Density)
pins: 1 BG (out) "Bottom Gate Driver Output. This pin drives the gate of the external bottom MOSFET. This pin has an output swing from GND to BOOST.", 2 TG (out) "Top Gate Driver Output. This pin drives the gate of the external topside MOSFET. This pin has an output swing from GND to BOOST.", 3 BOOST "Positive Supply Pin for the Gate Driver Circuitry. A bootstrapped capacitor, charged through an external Schottky diode from VIN, is connected between the BOOST and SW pins. Voltage swing at the BOOST pin is from VIN to 2VIN.(See Datasheet)", 4 VIN (power) "This pin powers the control circuitry and serves as the positive input to the differential current comparator. Pin 4 must not be locally decoupled with a capacitor as it is also the positive terminal for current sense.", 5 SW "Switch Node Connection to Inductor. This pin is also the negative input to the differential current comparator and an input to the reverse current comparator. Normally this pin is connected to the source of the external (See Datasheet)", 6 FREQ (in) "This pin serves as the frequency select input. Tying this pin to GND selects 300kHz operation; tying this pin to VIN selects 750kHz operation. Floating this pin selects 550kHz operation.", 7 IPRG (in) "Selects maximum peak sense voltage between the VIN and SW pins (i.e., the maximum allowed drop across the external top-side MOSFET). Tie to VIN, GND or float to select 200mV, 82mV or 120mV respectively.", 8 VFB (in) "Feedback Pin. This pin receives the remotely sensed feedback voltage from an external resistor divider across the output.", 9 ITH "Current Threshold and Error Amplifier Compensation Point. Nominal operating range on this pin is from 0.7V to 2V. The voltage on this pin determines the threshold of the main current comparator.", 10 RUN (in) "Run Control Input. Forcing this pin below 1.1V shuts down the chip. Driving this pin to VIN or releasing this pin enables the chip to start-up with the internal soft-start", 11 EP (power) "Exposed Pad. The exposed pad is ground and must be soldered to the PCB ground for electrical contact and optimal thermal performance."